# Altium schematic symbol library LCD显示.SchLib: 2 symbols
Pins are listed as number, name and electrical type; pins without a type are passive.

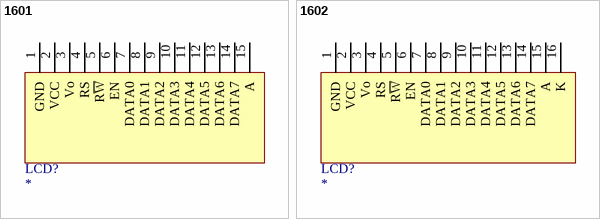
[diagram p0: symbols 1601 to 1602]

## 1601
designator LCD?
footprint 1601
footprint 1602-1
pins: 1 GND, 2 VCC, 3 Vo, 4 RS, 5 R~{W}, 6 EN, 7 DATA0, 8 DATA1, 9 DATA2, 10 DATA3, 11 DATA4, 12 DATA5, 13 DATA6, 14 DATA7, 15 A

## 1602
designator LCD?
footprint 1602
footprint 1602-1
pins: 1 GND, 2 VCC, 3 Vo, 4 RS, 5 R~{W}, 6 EN, 7 DATA0, 8 DATA1, 9 DATA2, 10 DATA3, 11 DATA4, 12 DATA5, 13 DATA6, 14 DATA7, 15 A, 16 K